# EAGLE library part EE02 (library EE)
EE02 Lora Module
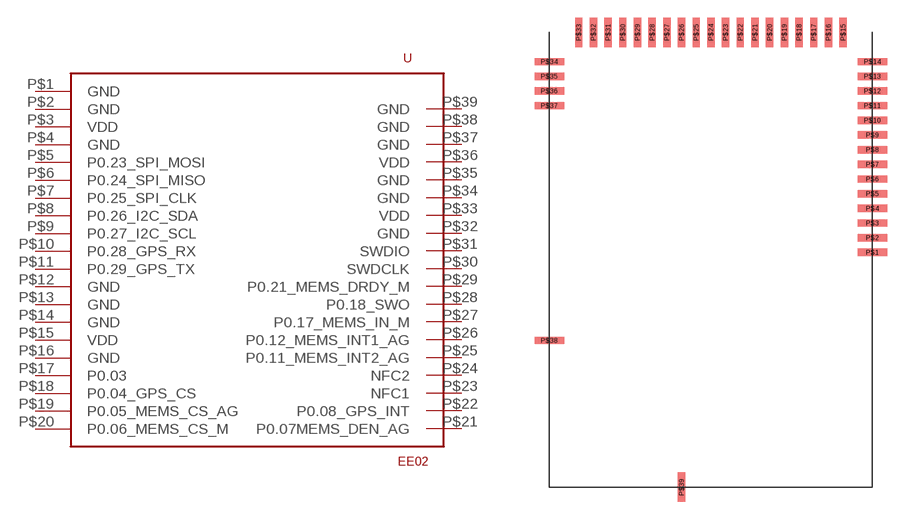
[diagram p0: symbol with the pads of EE02; footprint EE02]

Designator prefix -

## EE02 (VALUE: EE02)  [EE02]
P$1  GND
P$2  GND
P$3  VDD
P$4  GND
P$5  P0.23_SPI_MOSI
P$6  P0.24_SPI_MISO
P$7  P0.25_SPI_CLK
P$8  P0.26_I2C_SDA
P$9  P0.27_I2C_SCL
P$10  P0.28_GPS_RX
P$11  P0.29_GPS_TX
P$12  GND
P$13  GND
P$14  GND
P$15  VDD
P$16  GND
P$17  P0.03
P$18  P0.04_GPS_CS
P$19  P0.05_MEMS_CS_AG
P$20  P0.06_MEMS_CS_M
P$21  P0.07MEMS_DEN_AG
P$22  P0.08_GPS_INT
P$23  NFC1
P$24  NFC2
P$25  P0.11_MEMS_INT2_AG
P$26  P0.12_MEMS_INT1_AG
P$27  P0.17_MEMS_IN_M
P$28  P0.18_SWO
P$29  P0.21_MEMS_DRDY_M
P$30  SWDCLK
P$31  SWDIO
P$32  GND
P$33  VDD
P$34  GND
P$35  GND
P$36  VDD
P$37  GND
P$38  GND
P$39  GND

## Footprint EE02 (pad centres in mm)
EE02 Lora Module
smd 2.5 x 0.625: P$1 23.75,-10; P$2 23.75,-8.75; P$3 23.75,-7.5; P$4 23.75,-6.25; P$5 23.75,-5; P$6 23.75,-3.75; P$7 23.75,-2.5; P$8 23.75,-1.25; P$9 23.75,0; P$10 23.75,1.25; P$11 23.75,2.5; P$12 23.75,3.75; P$13 23.75,5; P$14 23.75,6.25; P$34 -3.75,6.25; P$35 -3.75,5; P$36 -3.75,3.75; P$37 -3.75,2.5; P$38 -3.75,-17.5
smd 0.625 x 2.5: P$15 21.25,8.75; P$16 20,8.75; P$17 18.75,8.75; P$18 17.5,8.75; P$19 16.25,8.75; P$20 15,8.75; P$21 13.75,8.75; P$22 12.5,8.75; P$23 11.25,8.75; P$24 10,8.75; P$25 8.75,8.75; P$26 7.5,8.75; P$27 6.25,8.75; P$28 5,8.75; P$29 3.75,8.75; P$30 2.5,8.75; P$31 1.25,8.75; P$32 0,8.75; P$33 -1.25,8.75; P$39 7.5,-30